# Altium footprint library 217183-0001.PcbLib: 1 footprints
Each footprint in its own frame and in the unit in brackets; x right, y up, seen from the top. Pads: shape width x height; smd on the part's side, far side on the other; paste and mask are expansions set on the pad; w line width, h text height; cw(c..) or ccw(c..) is an arc to the next point about the centre after c.
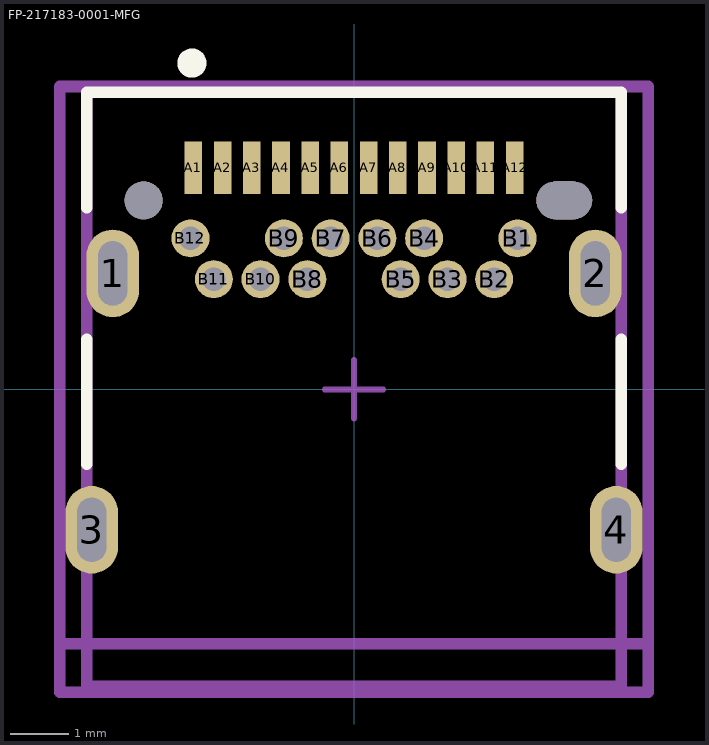
[diagram p0: the footprint, top view; thin cyan lines are the x and y axes]

## FP-217183-0001-MFG [mm]
pads (30):
  rrect100% 0.9x1.5 hole 1.1 slot 0.5 at 0 deg paste-1000 mask+0: 1(-4.13,1.985) 2(4.13,1.985) 3(-4.49,-2.405) 4(4.49,-2.405)
  rect 0.3x0.9 smd paste+0 mask+0: A1(-2.75,3.795) A2(-2.25,3.795) A3(-1.75,3.795) A4(-1.25,3.795) A5(-0.75,3.795) A6(-0.25,3.795) A7(0.25,3.795) A8(0.75,3.795) A9(1.25,3.795) A10(1.75,3.795) A11(2.25,3.795) A12(2.75,3.795)
  round 0.65 hole 0.4 paste-1000 mask+0: B1(2.8,2.585) B2(2.4,1.885) B3(1.6,1.885) B4(1.2,2.585) B5(0.8,1.885) B6(0.4,2.585) B7(-0.4,2.585) B8(-0.8,1.885) B9(-1.2,2.585) B10(-1.6,1.885) B11(-2.4,1.885) B12(-2.8,2.585)
  round 0.65 hole 0.65 unplated paste-1000 mask+0: ""(-3.6,3.235)
  rrect100% 0.95x0.65 hole 0.65 slot 0.95 at 0 deg unplated paste-1000 mask+0: ""(3.6,3.235)
Top Overlay:
  circle w0.25: c-2.775,5.585 r0.125
  lines w0.2: -4.575,-1.28 -4.575,0.86 ; -4.575,3.11 -4.575,5.085 4.575,5.085 4.575,3.11 ; 4.575,-1.28 4.575,0.86
Top Assembly:
  lines w0.2: -5.04,-5.185 5.04,-5.185 5.04,5.185 -5.04,5.185 -5.04,-5.185
  text ".Designator" at 0,0.187 h1
Top 3D Body:
  lines w0.2: -5.04,-4.355 5.04,-4.355 ; -4.575,-5.085 4.575,-5.085 4.575,5.085 -4.575,5.085 -4.575,-5.085
Top Courtyard:
  lines w0.2: -5.04,-5.185 5.04,-5.185 5.04,5.185 -5.04,5.185 -5.04,-5.185
Top Component Center:
  lines w0.1: -0.5,0 0.5,0 ; 0,-0.5 0,0.5
3D body "Conn_Molex_217183-0001_eec.STEP": height 0.25, standoff 0, extent -5.04,-5.185 5.04,5.185